# Altium schematic symbol library Schlib_Wayon.SchLib: 5 symbols
Pins are listed as number, name and electrical type; pins without a type are passive.

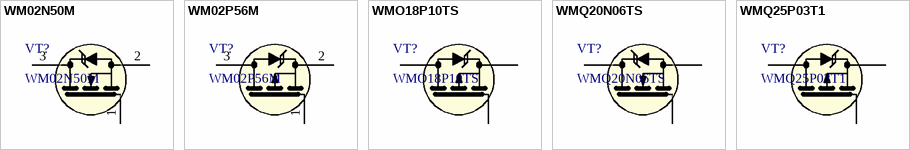
[diagram p0: symbols WM02N50M to WMQ25P03T1]

## WM02N50M
designator VT?
N-Channel MOSFET, 20V, 5A; Manufacturer: Wayon; Part Number: WM02N50M; Package: SOT23-3
footprint SOT23-3 (SOT23, 6-Leads, Body 2.90x2.80mm, Pitch 0.95mm, IPC Medium Density)
pins: 1 G, 2 S, 3 D

## WM02P56M
designator VT?
P-Channel MOSFET, -20V, -5.6A; Manufacturer: Wayon; Part Number: WM02P56M; Package: SOT23-3
footprint SOT23-3 (SOT23, 6-Leads, Body 2.90x2.80mm, Pitch 0.95mm, IPC Medium Density)
pins: 1 G, 2 S, 3 D

## WMO18P10TS
designator VT?
P-Channel MOSFET, -100V, -18A; Manufacturer: Wayon; Part Number: WMO18P10TS; Package: TO-252
footprint TO-252-3 (D-PAK, 3-Pads, Body 6.15x6.66mm (max), IPC Medium Density)
pins: 1 G, 2 D, 3 S

## WMQ20N06TS
designator VT?
N-Channel MOSFET, 60V, 20A; Manufacturer: Wayon; AltManufacturer: Alpha & Omega Semiconductor; Alternative: AON7402; Part Number: WMQ20N06TS; Package: PDFN8L3X3
footprint PDFN8L3X3 (Power 3mm x 3mm)
pins: 1 S, 2 G, 3 D

## WMQ25P03T1
designator VT?
P-Channel MOSFET, -30V, -25A; Manufacturer: Wayon; AltManufacturer: Alpha & Omega Semiconductor; Alternative: AON7403; Part Number: WMQ25P03T1; Package: PDFN8L3X3
footprint PDFN8L3X3 (Power 3mm x 3mm)
pins: 1 S, 2 G, 3 D